# Altium integrated library Sensors.IntLib: 2 symbols
Pins are listed as number, name and electrical type; pins without a type are passive.

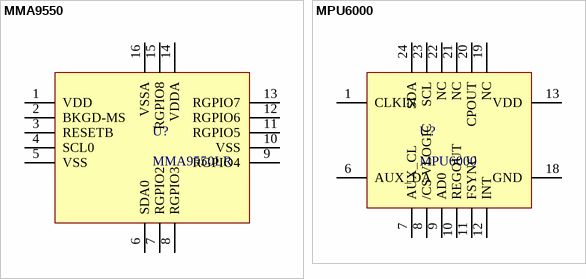
[diagram p0: symbols MMA9550 to MPU6000]

## MMA9550
designator U?, comment MMA9550LR
Freescale 3-axis accelerometer
footprint FREESCALE_LGA16_2094 (Freescale LGA16 package layout)
pins: 1 VDD, 2 BKGD-MS, 3 RESETB, 4 SCL0, 5 VSS, 6 SDA0, 7 RGPIO2, 8 RGPIO3, 9 RGPIO4, 10 VSS, 11 RGPIO5, 12 RGPIO6, 13 RGPIO7, 14 VDDA, 15 RGPIO8, 16 VSSA

## MPU6000
designator U?
Invensense MPU6000 6-axis motion sensor; PartNumber: MPU6000
footprint QFN24_4x4_NoHeat_N (QFN, 24-Leads, Body 4.00x4.00mm, Pitch 0.50mm, No Thermal Pad, IPC Medium Density)
pins: 1 CLKIN, 6 AUX_DA, 7 AUX_CL, 8 /CS VLOGIC, 9 AD0, 10 REGOUT, 11 FSYNC, 12 INT, 13 VDD, 18 GND, 19 NC, 20 CPOUT, 21 NC, 22 NC, 23 SCL, 24 SDA